# Altium footprint library PULSE_JXD2-0015NL.PcbLib: 1 footprints
Each footprint in its own frame and in the unit in brackets; x right, y up, seen from the top. Pads: shape width x height; smd on the part's side, far side on the other; paste and mask are expansions set on the pad; w line width, h text height; cw(c..) or ccw(c..) is an arc to the next point about the centre after c.
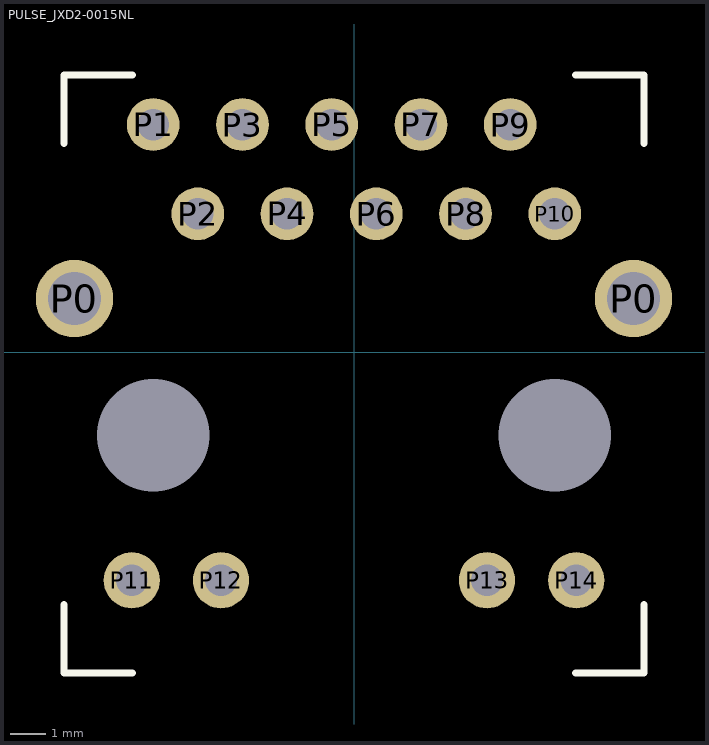
[diagram p0: the footprint, top view; thin cyan lines are the x and y axes]

## PULSE_JXD2-0015NL [mm]
pads (18):
  round 0 hole 3.2 unplated mask+0.05: 0(-5.715,-2.355) 0(5.715,-2.355)
  round 2.2 hole 1.5 mask+0.05: P0(-7.955,1.535) P0(7.955,1.535)
  round 1.5 hole 0.9 mask+0.05: P1(-5.715,6.485) P2(-4.445,3.945) P3(-3.175,6.485) P4(-1.905,3.945) P5(-0.635,6.485) P6(0.635,3.945) P7(1.905,6.485) P8(3.175,3.945) P9(4.445,6.485) P10(5.715,3.945)
  round 1.6 hole 0.9 mask+0.05: P11(-6.325,-6.485) P12(-3.785,-6.485) P13(3.785,-6.485) P14(6.325,-6.485)
Top Overlay:
  lines w0.2: -8.25,-7.175 -8.25,-9.125 -6.3,-9.125 ; -8.25,5.95 -8.25,7.9 -6.3,7.9 ; 6.3,-9.125 8.25,-9.125 8.25,-7.175 ; 6.3,7.9 8.25,7.9 8.25,5.95
3D body "JXD2-0015NL_3D_mod.STEP": height 17.15, standoff -3.05, extent -8.15,-9.03 8.15,7.79